# Altium integrated library CL05C101JB5NNNC.IntLib: 1 symbol
Pins are listed as number, name and electrical type; pins without a type are passive.

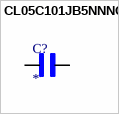
[diagram p0: symbol CL05C101JB5NNNC]

## CL05C101JB5NNNC
designator C?
100 pF Â±5% 50V Ceramic Capacitor C0G, NP0 0402 (1005 Metric); MF: Samsung Electro-Mechanics; MP: CL05C101JB5NNNC; SnapEDA_Link: https://www.snapeda.com/parts/CL05C101JB5NNNC/Samsung/view-part/?ref=snap; Package: SMD-2 Samsung; Value: *; Check_prices: https://www.snapeda.com/parts/CL05C101JB5NNNC/Samsung/view-part/?ref=eda
footprint CAPC1005X55N
pins: 1, 2